# EAGLE library part PAM8906M1018-13 (library PAM8906M1018-13)
Audio Amplifiers Audio Low Volt MSOP-10 T&R 2.5K Source: Datasheet <https://www.diodes.com/assets/Datasheets/PAM8906.pdf>
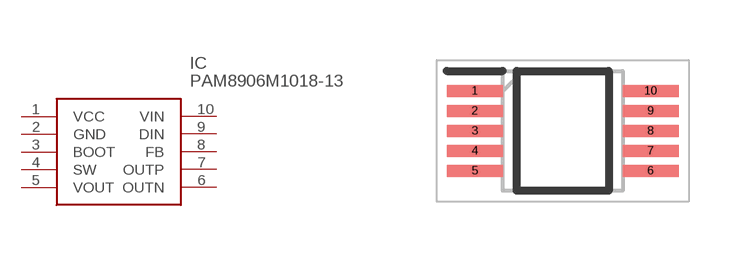
[diagram p0: symbol with the pads of SOP50P490X110-10N; footprint SOP50P490X110-10N]

Designator prefix IC

## PAM8906M1018-13 (Description: Audio Amplifiers Audio Low Volt MSOP-10 T&R 2.5K; Height: 1.1mm; Manufacturer_Name: Diodes Incorporated; Manufacturer_Part_Number: PAM8906M1018-13; Mouser_Part_Number: 621-PAM8906M1018-13; Mouser_Price-Stock: https://www.mouser.co.uk/ProductDetail/Diodes-Incorporated/PAM8906M1018-13?qs=amGC7iS6iy89BpBhX%252BV0cg%3D%3D)  [SOP50P490X110-10N]
1  VCC
2  GND
3  BOOT
4  SW
5  VOUT
6  OUTN
7  OUTP
8  FB
9  DIN
10  VIN

## Footprint SOP50P490X110-10N (pad centres in mm)
MSOP-10
smd 1.4 x 0.3: 1 -2.2,1; 2 -2.2,0.5; 3 -2.2,0; 4 -2.2,-0.5; 5 -2.2,-1; 6 2.2,-1; 7 2.2,-0.5; 8 2.2,0; 9 2.2,0.5; 10 2.2,1